# Altium schematic symbol library 6028LED.SchLib: 1 symbol
Pins are listed as number, name and electrical type; pins without a type are passive.

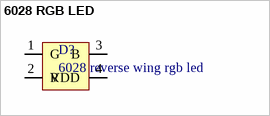
[diagram p0: symbol 6028 RGB LED]

## 6028 RGB LED
designator D?, comment 6028 reverse wing rgb led
footprint 6028RGBLED
pins: 1 G, 2 R, 3 B, 4 VDD